# Altium footprint library CON-PWXXS-X2.PcbLib: 11 footprints
Each footprint in its own frame and in the unit in brackets; x right, y up, seen from the top. Pads: shape width x height; smd on the part's side, far side on the other; paste and mask are expansions set on the pad; w line width, h text height; cw(c..) or ccw(c..) is an arc to the next point about the centre after c.
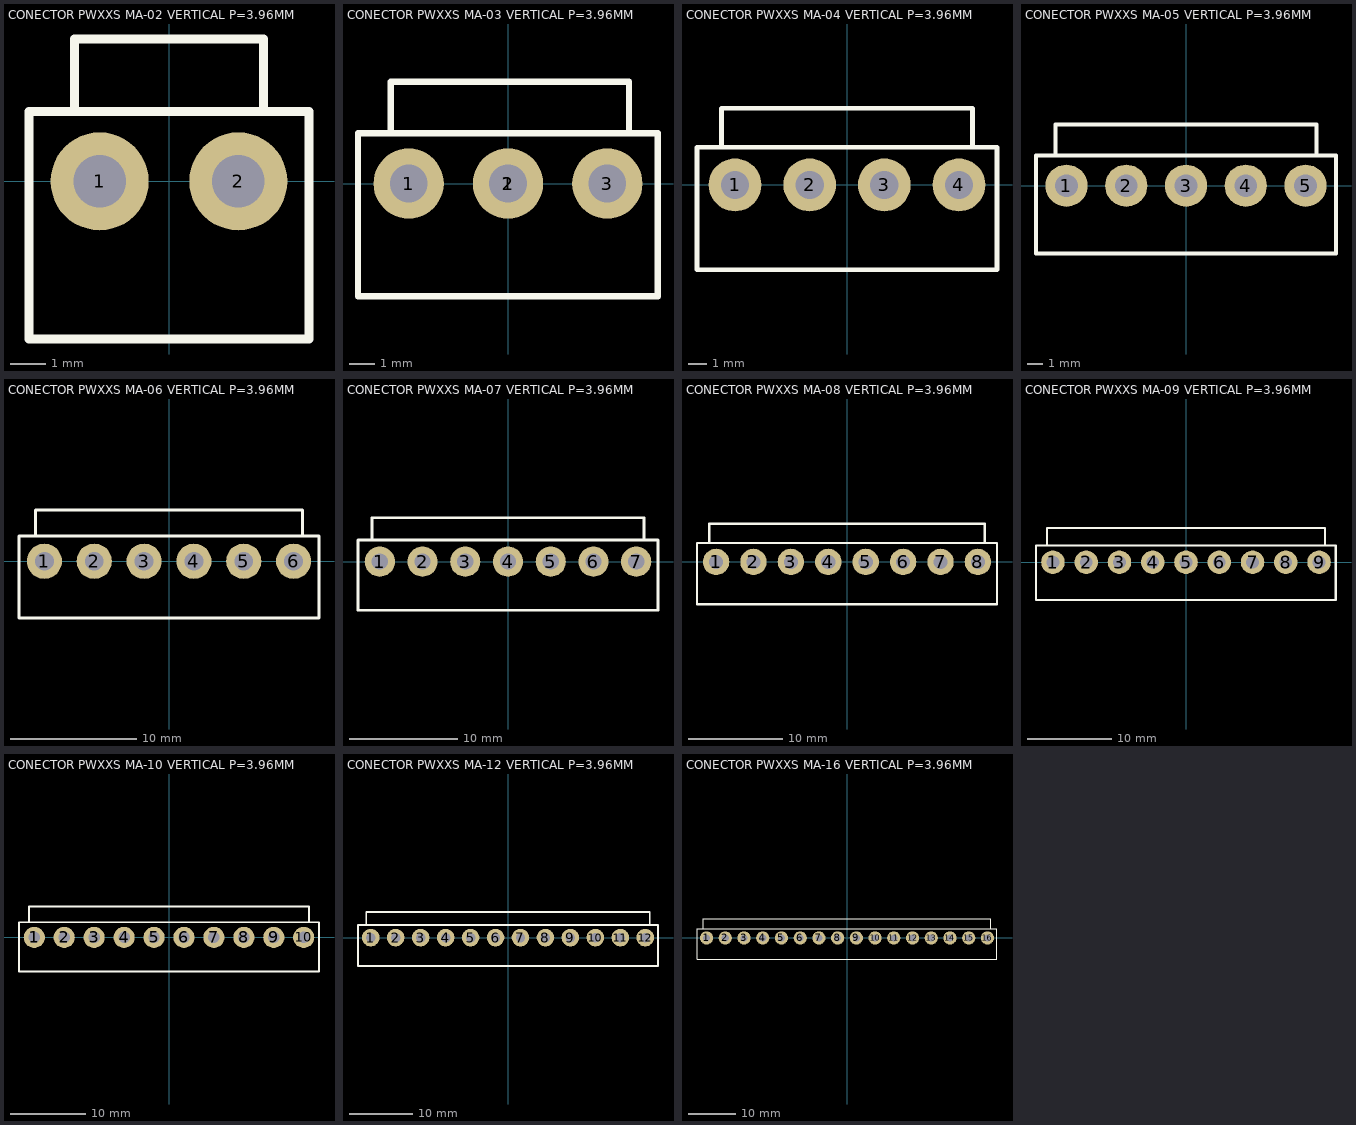
[diagram p0: the footprints below, top view; thin cyan lines are the x and y axes]

## CONECTOR PWXXS MA-02 VERTICAL P=3.96MM [mm] "CONECTOR PWXXS VERTICAL P=3.96MM"
pads (2):
  round 2.8 hole 1.5: 1(-1.98,0) 2(1.98,0)
Top Overlay:
  lines w0.254: -2.7,2.065 -2.7,4.064 2.7,4.064 2.7,2.033 ; -4,-4.5 4,-4.5 4,2 -4,2 -4,-4.5
3D body "CON-PWXXS-X2.stp": height 10.7, standoff -3.6, extent -3.983,-4.509 3.937,4.191

## CONECTOR PWXXS MA-03 VERTICAL P=3.96MM [mm] "CONECTOR PWXXS VERTICAL P=3.96MM"
pads (4):
  round 2.8 hole 1.5: 1(-3.96,0) 1(0,0) 2(0,0) 3(3.96,0)
Top Overlay:
  lines w0.254: -4.68,2.065 -4.68,4.064 0.72,4.064 ; -4,-4.5 4,-4.5 ; -4,2 4,2 ; -2.7,4.064 2.7,4.064 ; -2.02,-4.5 5.98,-4.5 ; -2.02,2 5.98,2 ; -0.72,4.064 4.68,4.064 ; -0.04,-4.5 5.969,-4.5 5.969,2 -0.04,2 ; 1.26,4.064 4.826,4.064 4.826,2.033 ; 2.02,-4.5 -5.98,-4.5 -5.98,2 2.02,2
3D body "CON-PWXXS-X3.stp": height 10.7, standoff -3.6, extent -5.94,-4.509 5.94,4.191

## CONECTOR PWXXS MA-04 VERTICAL P=3.96MM [mm] "CONECTOR PWXXS VERTICAL P=3.96MM"
pads (4):
  round 2.8 hole 1.5: 1(-5.94,0) 2(-1.98,0) 3(1.98,0) 4(5.94,0)
Top Overlay:
  lines w0.254: -6.66,2.065 -6.66,4.064 -1.26,4.064 ; -4,-4.5 4,-4.5 ; -4,2 4,2 ; -2.7,4.064 2.7,4.064 ; -0.04,-4.5 7.96,-4.5 7.96,2 -0.04,2 ; 0.04,-4.5 -7.96,-4.5 -7.96,2 0.04,2 ; 1.26,4.064 6.66,4.064 6.66,2.033
3D body "CON-PWXXS-X4.stp": height 10.7, standoff -3.6, extent -7.96,-4.5 7.88,4.2

## CONECTOR PWXXS MA-05 VERTICAL P=3.96MM [mm] "CONECTOR PWXXS VERTICAL P=3.96MM"
pads (5):
  round 2.8 hole 1.5: 1(-7.92,0) 2(-3.96,0) 3(0,0) 4(3.96,0) 5(7.92,0)
Top Overlay:
  lines w0.254: -8.64,2.065 -8.64,4.064 -3.24,4.064 ; -5.98,-4.5 2.02,-4.5 ; -5.98,2 2.02,2 ; -4.68,4.064 0.72,4.064 ; -4,-4.5 4,-4.5 ; -4,2 4,2 ; -2.7,4.064 2.7,4.064 ; -2.02,-4.5 5.98,-4.5 ; -2.02,2 5.98,2 ; -1.94,-4.5 -9.94,-4.5 -9.94,2 -1.94,2 ; -0.72,4.064 4.68,4.064 ; 1.94,-4.5 9.94,-4.5 9.94,2 1.94,2 ; 3.24,4.064 8.64,4.064 8.64,2.033
3D body "CON-PWXXS-X5.stp": height 10.7, standoff -3.6, extent -9.9,-4.5 9.9,4.2

## CONECTOR PWXXS MA-06 VERTICAL P=3.96MM [mm] "CONECTOR PWXXS VERTICAL P=3.96MM"
pads (6):
  round 2.8 hole 1.5: 1(-9.9,0) 2(-5.94,0) 3(-1.98,0) 4(1.98,0) 5(5.94,0) 6(9.9,0)
Top Overlay:
  lines w0.254: -10.62,2.065 -10.62,4.064 -5.22,4.064 ; -7.96,-4.5 0.04,-4.5 ; -7.96,2 0.04,2 ; -6.66,4.064 -1.26,4.064 ; -4,-4.5 4,-4.5 ; -4,2 4,2 ; -3.92,-4.5 -11.92,-4.5 -11.92,2 -3.92,2 ; -2.7,4.064 2.7,4.064 ; -0.04,-4.5 7.96,-4.5 ; -0.04,2 7.96,2 ; 1.26,4.064 6.66,4.064 ; 3.92,-4.5 11.92,-4.5 11.92,2 3.92,2 ; 5.22,4.064 10.62,4.064 10.62,2.033
3D body "CON-PWXXS-X6.stp": height 10.7, standoff -3.6, extent -11.92,-4.5 11.84,4.2

## CONECTOR PWXXS MA-07 VERTICAL P=3.96MM [mm] "CONECTOR PWXXS VERTICAL P=3.96MM"
pads (7):
  round 2.8 hole 1.5: 1(-11.88,0) 2(-7.92,0) 3(-3.96,0) 4(0,0) 5(3.96,0) 6(7.92,0) 7(11.88,0)
Top Overlay:
  lines w0.254: -12.6,2.065 -12.6,4.064 -7.2,4.064 ; -9.94,-4.5 -1.94,-4.5 ; -9.94,2 -1.94,2 ; -8.64,4.064 -3.24,4.064 ; -5.98,-4.5 2.02,-4.5 ; -5.98,2 2.02,2 ; -5.9,-4.5 -13.9,-4.5 -13.9,2 -5.9,2 ; -4.68,4.064 0.72,4.064 ; -2.02,-4.5 5.98,-4.5 ; -2.02,2 5.98,2 ; -0.72,4.064 4.68,4.064 ; 1.94,-4.5 9.94,-4.5 ; 1.94,2 9.94,2 ; 3.24,4.064 8.64,4.064 ; 5.9,-4.5 13.9,-4.5 13.9,2 5.9,2 ; 7.2,4.064 12.6,4.064 12.6,2.033
3D body "CON-PWXXS-X7.stp": height 10.7, standoff -3.6, extent -13.86,-4.5 13.86,4.2

## CONECTOR PWXXS MA-08 VERTICAL P=3.96MM [mm] "CONECTOR PWXXS VERTICAL P=3.96MM"
pads (8):
  round 2.8 hole 1.5: 1(-13.86,0) 2(-9.9,0) 3(-5.94,0) 4(-1.98,0) 5(1.98,0) 6(5.94,0) 7(9.9,0) 8(13.86,0)
Top Overlay:
  lines w0.254: -14.58,2.065 -14.58,4.064 -9.18,4.064 ; -11.92,-4.5 -3.92,-4.5 ; -11.92,2 -3.92,2 ; -10.62,4.064 -5.22,4.064 ; -7.96,-4.5 0.04,-4.5 ; -7.96,2 0.04,2 ; -7.88,-4.5 -15.88,-4.5 -15.88,2 -7.88,2 ; -6.66,4.064 -1.26,4.064 ; -4,-4.5 4,-4.5 ; -4,2 4,2 ; -2.7,4.064 2.7,4.064 ; -0.04,-4.5 7.96,-4.5 ; -0.04,2 7.96,2 ; 1.26,4.064 6.66,4.064 ; 3.92,-4.5 11.92,-4.5 ; 3.92,2 11.92,2 ; 5.22,4.064 10.62,4.064 ; 7.88,-4.5 15.88,-4.5 15.88,2 7.88,2 ; 9.18,4.064 14.58,4.064 14.58,2.033
3D body "CON-PWXXS-X8.stp": height 10.7, standoff -3.6, extent -15.8,-4.5 15.88,4.2

## CONECTOR PWXXS MA-09 VERTICAL P=3.96MM [mm] "CONECTOR PWXXS VERTICAL P=3.96MM"
pads (9):
  round 2.8 hole 1.5: 1(-15.84,0) 2(-11.88,0) 3(-7.92,0) 4(-3.96,0) 5(0,0) 6(3.96,0) 7(7.92,0) 8(11.88,0) 9(15.84,0)
Top Overlay:
  lines w0.254: -16.56,2.065 -16.56,4.064 -11.16,4.064 ; -13.9,-4.5 -5.9,-4.5 ; -13.9,2 -5.9,2 ; -12.6,4.064 -7.2,4.064 ; -9.94,-4.5 -1.94,-4.5 ; -9.94,2 -1.94,2 ; -9.86,-4.5 -17.86,-4.5 -17.86,2 -9.86,2 ; -8.64,4.064 -3.24,4.064 ; -5.98,-4.5 2.02,-4.5 ; -5.98,2 2.02,2 ; -4.68,4.064 0.72,4.064 ; -2.02,-4.5 5.98,-4.5 ; -2.02,2 5.98,2 ; -0.72,4.064 4.68,4.064 ; 1.94,-4.5 9.94,-4.5 ; 1.94,2 9.94,2 ; 3.24,4.064 8.64,4.064 ; 5.9,-4.5 13.9,-4.5 ; 5.9,2 13.9,2 ; 7.2,4.064 12.6,4.064 ; 9.86,-4.5 17.86,-4.5 17.86,2 9.86,2 ; 11.16,4.064 16.56,4.064 16.56,2.033 ; 17.78,-4.5 17.78,2
3D body "CON-PWXXS-X9.stp": height 10.7, standoff -3.6, extent -17.82,-4.5 17.82,4.2

## CONECTOR PWXXS MA-10 VERTICAL P=3.96MM [mm] "CONECTOR PWXXS VERTICAL P=3.96MM"
pads (10):
  round 2.8 hole 1.5: 1(-17.82,0) 2(-13.86,0) 3(-9.9,0) 4(-5.94,0) 5(-1.98,0) 6(1.98,0) 7(5.94,0) 8(9.9,0) 9(13.86,0) 10(17.82,0)
Top Overlay:
  lines w0.254: -18.54,2.065 -18.54,4.064 -13.14,4.064 ; -15.88,-4.5 -7.88,-4.5 ; -15.88,2 -7.88,2 ; -14.58,4.064 -9.18,4.064 ; -11.92,-4.5 -3.92,-4.5 ; -11.92,2 -3.92,2 ; -11.84,-4.5 -19.84,-4.5 -19.84,2 -11.84,2 ; -10.62,4.064 -5.22,4.064 ; -7.96,-4.5 0.04,-4.5 ; -7.96,2 0.04,2 ; -6.66,4.064 -1.26,4.064 ; -4,-4.5 4,-4.5 ; -4,2 4,2 ; -2.7,4.064 2.7,4.064 ; -0.04,-4.5 7.96,-4.5 ; -0.04,2 7.96,2 ; 1.26,4.064 6.66,4.064 ; 3.92,-4.5 11.92,-4.5 ; 3.92,2 11.92,2 ; 5.22,4.064 10.62,4.064 ; 7.88,-4.5 15.88,-4.5 ; 7.88,2 15.88,2 ; 9.18,4.064 14.58,4.064 ; 11.84,-4.5 19.84,-4.5 19.84,2 11.84,2 ; 13.14,4.064 18.54,4.064 18.54,2.033
3D body "CON-PWXXS-X10.stp": height 10.7, standoff -3.6, extent -19.76,-4.5 19.84,4.2

## CONECTOR PWXXS MA-12 VERTICAL P=3.96MM [mm] "CONECTOR PWXXS VERTICAL P=3.96MM"
pads (12):
  round 2.8 hole 1.5: 1(-21.78,0) 2(-17.82,0) 3(-13.86,0) 4(-9.9,0) 5(-5.94,0) 6(-1.98,0) 7(1.98,0) 8(5.94,0) 9(9.9,0) 10(13.86,0) 11(17.82,0) 12(21.78,0)
Top Overlay:
  lines w0.254: -22.5,2.065 -22.5,4.064 -17.1,4.064 ; -19.84,-4.5 -11.84,-4.5 ; -19.84,2 -11.84,2 ; -18.54,4.064 -13.14,4.064 ; -15.88,-4.5 -7.88,-4.5 ; -15.88,2 -7.88,2 ; -15.8,-4.5 -23.8,-4.5 -23.8,2 -15.8,2 ; -14.58,4.064 -9.18,4.064 ; -11.92,-4.5 -3.92,-4.5 ; -11.92,2 -3.92,2 ; -10.62,4.064 -5.22,4.064 ; -7.96,-4.5 0.04,-4.5 ; -7.96,2 0.04,2 ; -6.66,4.064 -1.26,4.064 ; -4,-4.5 4,-4.5 ; -4,2 4,2 ; -2.7,4.064 2.7,4.064 ; -0.04,-4.5 7.96,-4.5 ; -0.04,2 7.96,2 ; 1.26,4.064 6.66,4.064 ; 3.92,-4.5 11.92,-4.5 ; 3.92,2 11.92,2 ; 5.22,4.064 10.62,4.064 ; 7.88,-4.5 15.88,-4.5 ; 7.88,2 15.88,2 ; 9.18,4.064 14.58,4.064 ; 11.84,-4.5 19.84,-4.5 ; 11.84,2 19.84,2 ; 13.14,4.064 18.54,4.064 ; 15.8,-4.5 23.8,-4.5 23.8,2 15.8,2 ; 17.1,4.064 22.5,4.064 22.5,2.033
3D body "CON-PWXXS-X12.stp": height 10.7, standoff -3.6, extent -23.72,-4.5 23.8,4.2

## CONECTOR PWXXS MA-16 VERTICAL P=3.96MM [mm] "CONECTOR PWXXS VERTICAL P=3.96MM"
pads (16):
  round 2.8 hole 1.5: 1(-29.7,0) 2(-25.74,0) 3(-21.78,0) 4(-17.82,0) 5(-13.86,0) 6(-9.9,0) 7(-5.94,0) 8(-1.98,0) 9(1.98,0) 10(5.94,0) 11(9.9,0) 12(13.86,0) 13(17.82,0) 14(21.78,0) 15(25.74,0) 16(29.7,0)
Top Overlay:
  lines w0.254: -30.42,2.065 -30.42,4.064 -25.02,4.064 ; -27.76,-4.5 -19.76,-4.5 ; -27.76,2 -19.76,2 ; -26.46,4.064 -21.06,4.064 ; -23.8,-4.5 -15.8,-4.5 ; -23.8,2 -15.8,2 ; -23.72,-4.5 -31.72,-4.5 -31.72,2 -23.72,2 ; -22.5,4.064 -17.1,4.064 ; -19.84,-4.5 -11.84,-4.5 ; -19.84,2 -11.84,2 ; -18.54,4.064 -13.14,4.064 ; -15.88,-4.5 -7.88,-4.5 ; -15.88,2 -7.88,2 ; -14.58,4.064 -9.18,4.064 ; -11.92,-4.5 -3.92,-4.5 ; -11.92,2 -3.92,2 ; -10.62,4.064 -5.22,4.064 ; -7.96,-4.5 0.04,-4.5 ; -7.96,2 0.04,2 ; -6.66,4.064 -1.26,4.064 ; -4,-4.5 4,-4.5 ; -4,2 4,2 ; -2.7,4.064 2.7,4.064 ; -0.04,-4.5 7.96,-4.5 ; -0.04,2 7.96,2 ; 1.26,4.064 6.66,4.064 ; 3.92,-4.5 11.92,-4.5 ; 3.92,2 11.92,2 ; 5.22,4.064 10.62,4.064 ; 7.88,-4.5 15.88,-4.5 ; 7.88,2 15.88,2 ; 9.18,4.064 14.58,4.064 ; 11.84,-4.5 19.84,-4.5 ; 11.84,2 19.84,2 ; 13.14,4.064 18.54,4.064 ; 15.8,-4.5 23.8,-4.5 ; 15.8,2 23.8,2 ; 17.1,4.064 22.5,4.064 ; 19.76,-4.5 27.76,-4.5 ; 19.76,2 27.76,2 ; 21.06,4.064 26.46,4.064 ; 23.72,-4.5 31.72,-4.5 31.72,2 23.72,2 ; 25.02,4.064 30.42,4.064 30.42,2.033
3D body "CON-PWXXS-X16.stp": height 10.7, standoff -3.6, extent -31.64,-4.5 31.72,4.2